# EAGLE library part FT232BL (library !Treadmill)
FTDI USB to Serial UART (Digikey: 768-1009-1-ND)
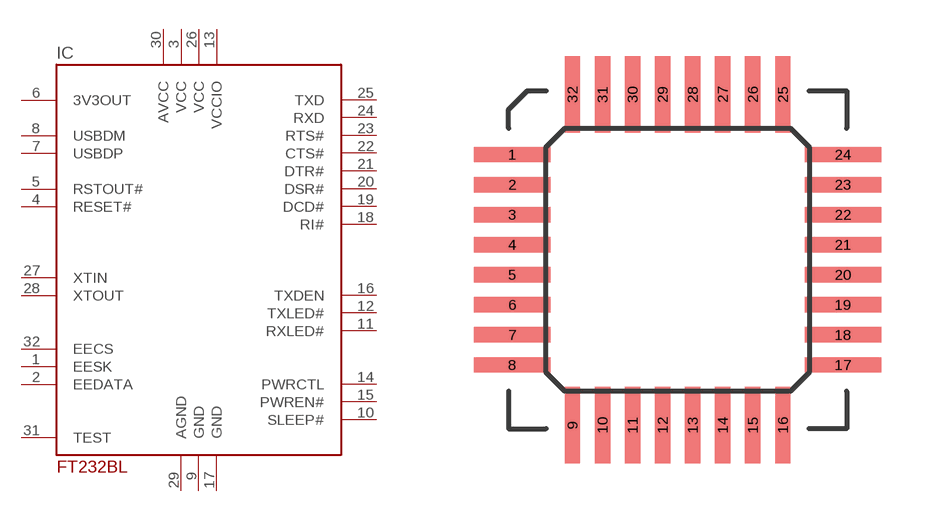
[diagram p0: symbol with the pads of 32-LQFP; footprint 32-LQFP]

Designator prefix IC

## FT232BL  [32-LQFP]
1  EESK  out
2  EEDATA
3  VCC  pwr
4  RESET#  in
5  RSTOUT#  out
6  3V3OUT  out
7  USBDP
8  USBDM
9  GND  pwr
10  SLEEP#  out
11  RXLED#  oc
12  TXLED#  oc
13  VCCIO  pwr
14  PWRCTL  in
15  PWREN#  out
16  TXDEN  out
17  GND  pwr
18  RI#  in
19  DCD#  in
20  DSR#  in
21  DTR#  out
22  CTS#  in
23  RTS#  out
24  RXD  in
25  TXD  out
26  VCC  pwr
27  XTIN  in
28  XTOUT  out
29  AGND  pwr
30  AVCC  pwr
31  TEST  in
32  EECS

## Footprint 32-LQFP (pad centres in mm)
LQFP-32 Low-profile Quad Flat Package
smd 2.03 x 0.41: 1 -4.4,2.8; 2 -4.4,2; 3 -4.4,1.2; 4 -4.4,0.4; 5 -4.4,-0.4; 6 -4.4,-1.2; 7 -4.4,-2; 8 -4.4,-2.8; 17 4.4,-2.8; 18 4.4,-2; 19 4.4,-1.2; 20 4.4,-0.4; 21 4.4,0.4; 22 4.4,1.2; 23 4.4,2; 24 4.4,2.8
smd 0.41 x 2.03: 9 -2.8,-4.4; 10 -2,-4.4; 11 -1.2,-4.4; 12 -0.4,-4.4; 13 0.4,-4.4; 14 1.2,-4.4; 15 2,-4.4; 16 2.8,-4.4; 25 2.8,4.4; 26 2,4.4; 27 1.2,4.4; 28 0.4,4.4; 29 -0.4,4.4; 30 -1.2,4.4; 31 -2,4.4; 32 -2.8,4.4